# Altium footprint library CAP-TAN-C.PcbLib: 1 footprints
Each footprint in its own frame and in the unit in brackets; x right, y up, seen from the top. Pads: shape width x height; smd on the part's side, far side on the other; paste and mask are expansions set on the pad; w line width, h text height; cw(c..) or ccw(c..) is an arc to the next point about the centre after c.
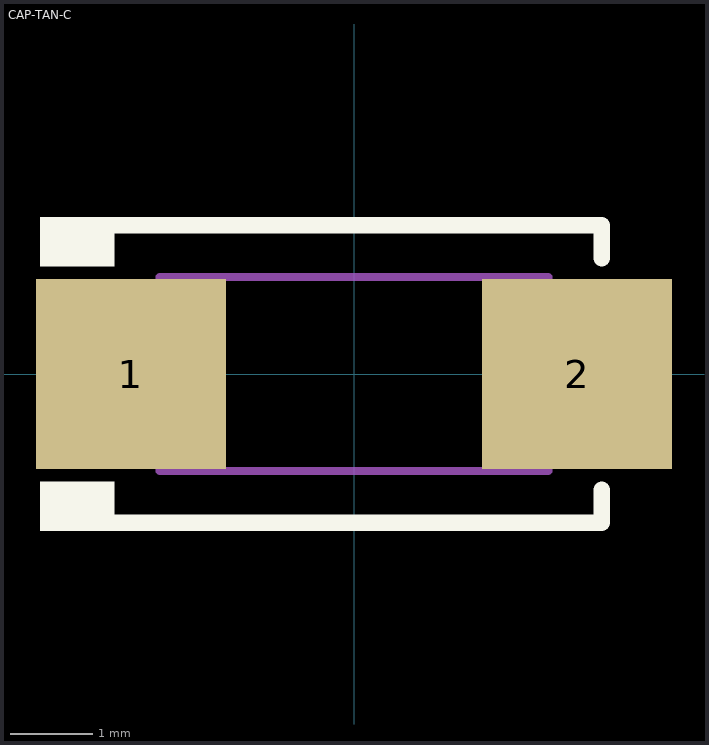
[diagram p0: the footprint, top view; thin cyan lines are the x and y axes]

## CAP-TAN-C [mm]
height 0.95
pads (2):
  rect 2.3x2.3 smd: 1(-2.7,0) 2(2.7,0)
Top Overlay:
  rectangle: -3.8,-1.9 -2.9,-1.3
  rectangle: -3.8,1.3 -2.9,1.9
  lines w0.2: -3,-1.4 -3,-1.8 3,-1.8 3,-1.4 ; -3,1.4 -3,1.8 3,1.8 3,1.4
Top Assembly:
  lines w0.1: -2.35,-1.175 2.35,-1.175 2.35,1.175 -2.35,1.175 -2.35,-1.175
  text "'.Designator'" at -0.925,-0.325 h0.7
3D body "User Library-Tantalum Size C.STEP": height 2.6, standoff 0, extent -2.9,-1.6 2.9,1.6